# Altium schematic symbol library SCH - DRIVER - LED - TI LM27965SQ.SchLib: 1 symbol
Pins are listed as number, name and electrical type; pins without a type are passive.

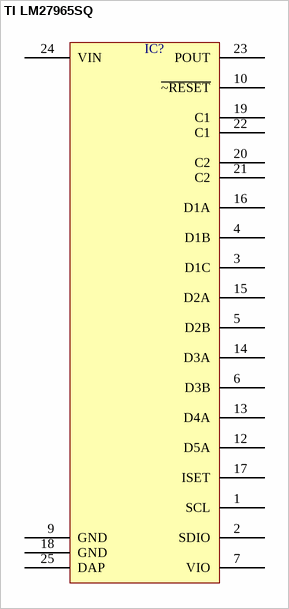
[diagram p0: symbol TI LM27965SQ]

## TI LM27965SQ
designator IC?  (value not drawn)
pins: 1 SCL, 2 SDIO, 3 D1C, 4 D1B, 5 D2B, 6 D3B, 7 VIO, 9 GND, 10 ~{~RESET}, 12 D5A, 13 D4A, 14 D3A, 15 D2A, 16 D1A, 17 ISET, 18 GND, 19 C1, 20 C2, 21 C2, 22 C1, 23 POUT, 24 VIN, 25 DAP